# EAGLE library part 20VA (library trafo)
TRANSFORMER 1 primary winding with 2 taps, 1 secondary winding, core ring
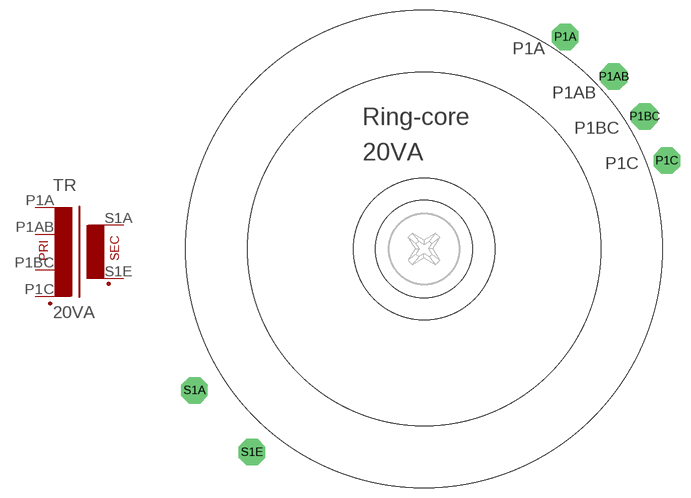
[diagram p50: symbol with the pads of 20VA; footprint 20VA]

Designator prefix TR

## 20VA  [20VA]
P1A  P1A  pas
P1AB  P1AB  pas
P1BC  P1BC  pas
P1C  P1C  pas
S1A  S1  pas
S1E  S2  pas

## Footprint 20VA (pad centres in mm)
TRANSFORMER 1 primary winding with 2 taps, 1 secondary winding, core ring
drill 0.61 pad 3.81 octagon: P1A 20.32,30.48; P1AB 27.305,24.765; P1BC 31.75,19.05; P1C 34.925,12.7
drill 0.813 pad 3.81 octagon: S1A -33.02,-20.32; S1E -24.765,-29.21